# EAGLE library part TPS61092_BOOSTREG (library DMF-TimerProject)
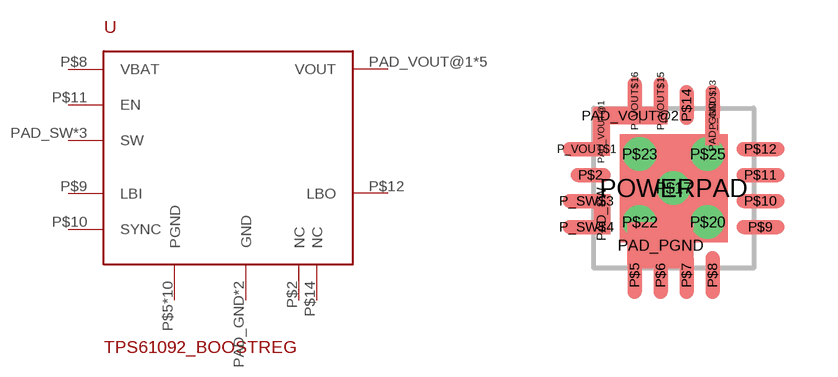
[diagram p2: symbol with the pads of TPS61092_RSA; footprint TPS61092_RSA]

Designator prefix -

## TPS61092_BOOSTREG  [TPS61092_RSA]
P$2  NC  nc
P$5  PGND
P$6  PGND
P$7  PGND
P$8  VBAT  pwr
P$9  LBI  in
P$10  SYNC
P$11  EN  in
P$12  LBO  out
P$14  NC  nc
P$17  PGND
P$20  PGND
P$22  PGND
P$23  PGND
P$25  PGND
P_GND$13  GND
P_SW$3  SW  in
P_SW$4  SW  in
P_VOUT$1  VOUT  out
P_VOUT$15  VOUT  out
P_VOUT$16  VOUT  out
PAD_GND  GND
PAD_PGND  PGND
PAD_SW  SW  in
PAD_VOUT@1  VOUT  out
PAD_VOUT@2  VOUT  out
POWERPAD  PGND

## Footprint TPS61092_RSA (pad centres in mm)
smd 1 x 0.35: P$2 -2.075,0.325
smd 0.35 x 1.2: P$5 -0.975,-2.175; P$6 -0.325,-2.175; P$7 0.325,-2.175; P$8 0.975,-2.175; P_VOUT$15 -0.325,2.175; P_VOUT$16 -0.975,2.175
smd 1.2 x 0.35: P$9 2.175,-0.975; P$10 2.175,-0.325; P$11 2.175,0.325; P$12 2.175,0.975; P_SW$3 -2.175,-0.325; P_SW$4 -2.175,-0.975; P_VOUT$1 -2.175,0.975
smd 0.35 x 1: P$14 0.325,2.075; P_GND$13 0.975,2.075
drill 0.33: P$17 0,0; P$20 0.85,-0.85; P$22 -0.85,-0.85; P$23 -0.85,0.85; P$25 0.85,0.85
smd 0.35 x 0.95: PAD_GND 0.97,1.54
smd 1.65 x 1.15: PAD_PGND -0.33,-1.43
smd 0.425 x 1: PAD_SW -1.8,-0.65
smd 0.425 x 1.2: PAD_VOUT@1 -1.805,1.41
smd 1.85 x 0.425: PAD_VOUT@2 -1.08,1.805
smd 2.7 x 2.7: POWERPAD 0,0